# Altium schematic symbol library IRLMS_2002.Schlib: 1 symbol
Pins are listed as number, name and electrical type; pins without a type are passive.

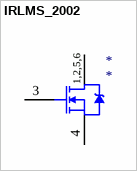
[diagram p0: symbol IRLMS_2002]

## IRLMS_2002
designator *
N channel MosFET; Назначение: Транзистор; Наименование: IRLMS-2002
footprint SOT23-6
footprint SOT23-6 inverted
pins: 1 D, 2 D, 3 G, 4 S, 5 D, 6 D
text: 1,2,5,6